# EAGLE library part IP2721 (library Public)
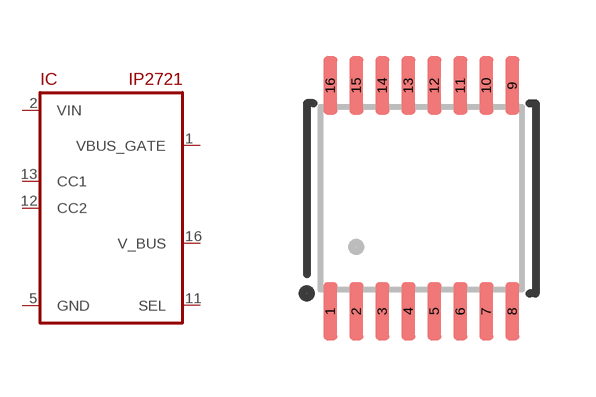
[diagram p224: symbol with the pads of TSSOP16; footprint TSSOP16]

Designator prefix IC

## IP2721  [TSSOP16]
1  VBUS_GATE
2  VIN
5  GND
11  SEL
12  CC2
13  CC1
16  V_BUS

## Footprint TSSOP16 (pad centres in mm)
smd 0.35 x 1.45: 1 -2.275,-2.825; 2 -1.625,-2.825; 3 -0.975,-2.825; 4 -0.325,-2.825; 5 0.325,-2.825; 6 0.975,-2.825; 7 1.625,-2.825; 8 2.275,-2.825; 9 2.275,2.825; 10 1.625,2.825; 11 0.975,2.825; 12 0.325,2.825; 13 -0.325,2.825; 14 -0.975,2.825; 15 -1.625,2.825; 16 -2.275,2.825